# Altium footprint library Capacitor Polar Axial.PcbLib: 56 footprints (part 3 of 4)
Each footprint in its own frame and in the unit in brackets; x right, y up, seen from the top. Pads: shape width x height; smd on the part's side, far side on the other; paste and mask are expansions set on the pad; w line width, h text height; cw(c..) or ccw(c..) is an arc to the next point about the centre after c.
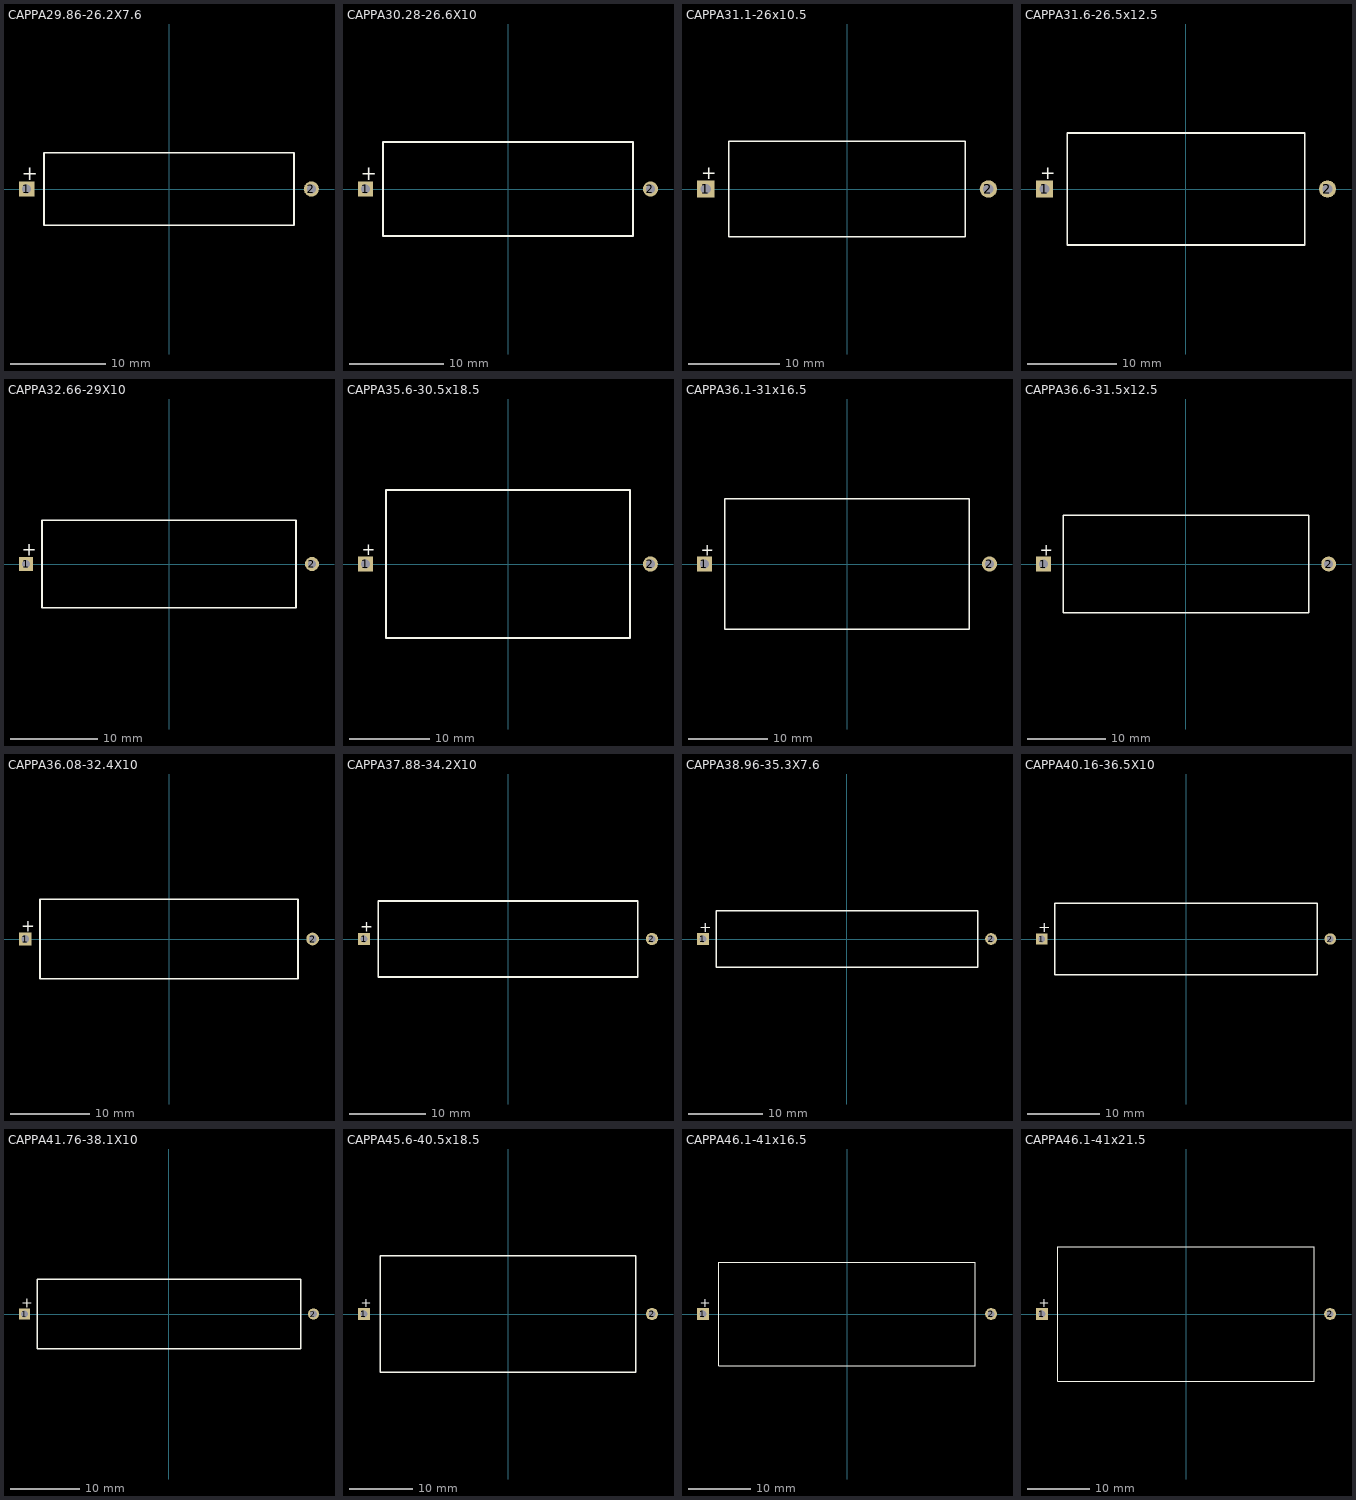
[diagram p2: the footprints below, top view; thin cyan lines are the x and y axes]

## CAPPA29.86-26.2X7.6 [mm] "Capacitor, Axial, Polarised; Body 26.2 x 7.5 mm (LxDia. max), Lead Dia. 0.64 mm (typ)"
height 7.6
pads (2):
  rect 1.6x1.6 hole 0.95: 1(-14.93,0)
  round 1.6 hole 0.95: 2(14.93,0)
Top Overlay:
  lines w0.2: -13.1,-3.8 13.1,-3.8 13.1,3.8 -13.1,3.8 -13.1,-3.8
  text "+" at -15.43,0.925 h1.5

## CAPPA30.28-26.6X10 [mm] "Capacitor, Axial, Polarised; Body 20.2 x 9.9 mm (LxDia. max), Lead Dia. 0.64 mm (typ)"
height 10
pads (2):
  rect 1.6x1.6 hole 0.95: 1(-15.14,0)
  round 1.6 hole 0.95: 2(15.14,0)
Top Overlay:
  lines w0.2: -13.3,-5 -13.3,5 13.3,5 13.3,-5 -13.3,-5
  text "+" at -15.64,0.925 h1.5

## CAPPA31.1-26x10.5 [mm] "Capacitor, Axial, Polarised; Body 26 x 10.5 mm (LxDia. max), Lead Dia. 0.8 mm (typ)"
height 10.5
pads (2):
  rect 1.9x1.9 hole 1.15: 1(-15.55,0)
  round 1.9 hole 1.15: 2(15.55,0)
Top Overlay:
  lines w0.2: -13,-5.25 -13,5.25 13,5.25 13,-5.25 -13,-5.25
  text "+" at -16.05,1.075 h1.5

## CAPPA31.6-26.5x12.5 [mm] "Capacitor, Axial, Polarised; Body 26.5 x 12.5 mm (LxDia. max), Lead Dia. 0.8 mm (typ)"
height 12.5
pads (2):
  rect 1.9x1.9 hole 1.15: 1(-15.8,0)
  round 1.9 hole 1.15: 2(15.8,0)
Top Overlay:
  lines w0.2: -13.25,-6.25 -13.25,6.25 13.25,6.25 13.25,-6.25 -13.25,-6.25
  text "+" at -16.3,1.075 h1.5

## CAPPA32.66-29X10 [mm] "Capacitor, Axial, Polarised; Body 20.2 x 9.9 mm (LxDia. max), Lead Dia. 0.64 mm (typ)"
height 10
pads (2):
  rect 1.6x1.6 hole 0.95: 1(-16.33,0)
  round 1.6 hole 0.95: 2(16.33,0)
Top Overlay:
  lines w0.2: -14.5,-5 14.5,-5 14.5,5 -14.5,5 -14.5,-5
  text "+" at -16.83,0.925 h1.5

## CAPPA35.6-30.5x18.5 [mm] "Capacitor, Axial, Polarised; Body 30.5 x 18.5 mm (LxDia. max), Lead Dia. 0.8 mm (typ)"
height 18.5
pads (2):
  rect 1.9x1.9 hole 1.15: 1(-17.8,0)
  round 1.9 hole 1.15: 2(17.8,0)
Top Overlay:
  lines w0.2: -15.25,-9.25 -15.25,9.25 15.25,9.25 15.25,-9.25 -15.25,-9.25
  text "+" at -18.3,1.075 h1.5

## CAPPA36.1-31x16.5 [mm] "Capacitor, Axial, Polarised; Body 31 x 16.5 mm (LxDia. max), Lead Dia. 0.8 mm (typ)"
height 16.5
pads (2):
  rect 1.9x1.9 hole 1.15: 1(-18.05,0)
  round 1.9 hole 1.15: 2(18.05,0)
Top Overlay:
  lines w0.2: -15.5,-8.25 -15.5,8.25 15.5,8.25 15.5,-8.25 -15.5,-8.25
  text "+" at -18.55,1.075 h1.5

## CAPPA36.6-31.5x12.5 [mm] "Capacitor, Axial, Polarised; Body 31.5 x 12.5 mm (LxDia. max), Lead Dia. 0.8 mm (typ)"
height 12.5
pads (2):
  rect 1.9x1.9 hole 1.15: 1(-18.3,0)
  round 1.9 hole 1.15: 2(18.3,0)
Top Overlay:
  lines w0.2: -15.75,-6.25 -15.75,6.25 15.75,6.25 15.75,-6.25 -15.75,-6.25
  text "+" at -18.8,1.075 h1.5

## CAPPA36.08-32.4X10 [mm] "Capacitor, Axial, Polarised; Body 27.8 x 9.9 mm (LxDia. max), Lead Dia. 0.64 mm (typ)"
height 10
pads (2):
  rect 1.6x1.6 hole 0.95: 1(-18.04,0)
  round 1.6 hole 0.95: 2(18.04,0)
Top Overlay:
  lines w0.2: -16.2,-5 -16.2,5 16.2,5 16.2,-5 -16.2,-5
  text "+" at -18.54,0.925 h1.5

## CAPPA37.88-34.2X10 [mm] "Capacitor, Axial, Polarised; Body 27.8 x 9.9 mm (LxDia. max), Lead Dia. 0.64 mm (typ)"
height 10
pads (2):
  rect 1.6x1.6 hole 0.95: 1(-18.94,0)
  round 1.6 hole 0.95: 2(18.94,0)
Top Overlay:
  lines w0.2: -17.1,-5 17.1,-5 17.1,5 -17.1,5 -17.1,-5
  text "+" at -19.44,0.925 h1.5

## CAPPA38.96-35.3X7.6 [mm] "Capacitor, Axial, Polarised; Body 26.4 x 7.5 mm (LxDia. max), Lead Dia. 0.66 mm (typ)"
height 7.6
pads (2):
  rect 1.6x1.6 hole 0.95: 1(-19.48,0)
  round 1.6 hole 0.95: 2(19.48,0)
Top Overlay:
  lines w0.2: -17.65,-3.8 -17.65,3.8 17.65,3.8 17.65,-3.8 -17.65,-3.8
  text "+" at -19.98,0.925 h1.5

## CAPPA40.16-36.5X10 [mm] "Capacitor, Axial, Polarised; Body 27.8 x 9.9 mm (LxDia. max), Lead Dia. 0.64 mm (typ)"
height 10
pads (2):
  rect 1.6x1.6 hole 0.95: 1(-20.08,0)
  round 1.6 hole 0.95: 2(20.08,0)
Top Overlay:
  lines w0.2: -18.25,-5 -18.25,5 18.25,5 18.25,-5 -18.25,-5
  text "+" at -20.58,0.925 h1.5

## CAPPA41.76-38.1X10 [mm] "Capacitor, Axial, Polarised; Body 38.1 x 9.9 mm (LxDia. max), Lead Dia. 0.64 mm (typ)"
height 10
pads (2):
  rect 1.6x1.6 hole 0.95: 1(-20.88,0)
  round 1.6 hole 0.95: 2(20.88,0)
Top Overlay:
  lines w0.2: -19.05,-5 -19.05,5 19.05,5 19.05,-5 -19.05,-5
  text "+" at -21.38,0.925 h1.5

## CAPPA45.6-40.5x18.5 [mm] "Capacitor, Axial, Polarised; Body 40.5 x 18.5 mm (LxDia. max), Lead Dia. 0.8 mm (typ)"
height 18.5
pads (2):
  rect 1.9x1.9 hole 1.15: 1(-22.8,0)
  round 1.9 hole 1.15: 2(22.8,0)
Top Overlay:
  lines w0.2: -20.25,-9.25 -20.25,9.25 20.25,9.25 20.25,-9.25 -20.25,-9.25
  text "+" at -23.3,1.075 h1.5

## CAPPA46.1-41x16.5 [mm] "Capacitor, Axial, Polarised; Body 41 x 16.5 mm (LxDia. max), Lead Dia. 0.8 mm (typ)"
height 16.5
pads (2):
  rect 1.9x1.9 hole 1.15: 1(-23.05,0)
  round 1.9 hole 1.15: 2(23.05,0)
Top Overlay:
  lines w0.2: -20.5,-8.25 -20.5,8.25 20.5,8.25 20.5,-8.25 -20.5,-8.25
  text "+" at -23.55,1.075 h1.5

## CAPPA46.1-41x21.5 [mm] "Capacitor, Axial, Polarised; Body 41 x 21.5 mm (LxDia. max), Lead Dia. 0.8 mm (typ)"
height 21.5
pads (2):
  rect 1.9x1.9 hole 1.15: 1(-23.05,0)
  round 1.9 hole 1.15: 2(23.05,0)
Top Overlay:
  lines w0.2: -20.5,-10.75 -20.5,10.75 20.5,10.75 20.5,-10.75 -20.5,-10.75
  text "+" at -23.55,1.075 h1.5